# Altium footprint library AWR1843ABGABLQ1.PcbLib: 3 footprints
Each footprint in its own frame and in the unit in brackets; x right, y up, seen from the top. Pads: shape width x height; smd on the part's side, far side on the other; paste and mask are expansions set on the pad; w line width, h text height; cw(c..) or ccw(c..) is an arc to the next point about the centre after c.
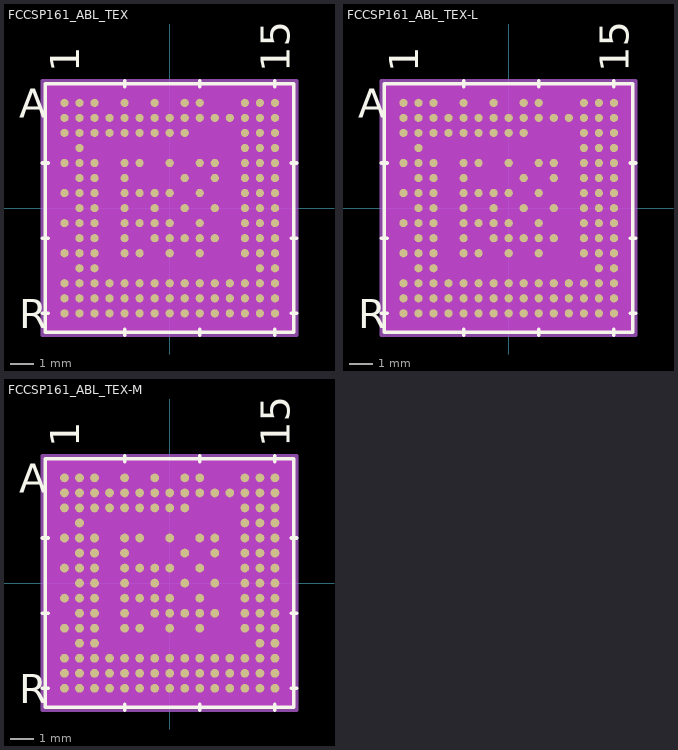
[diagram p0: the footprints below, top view; thin cyan lines are the x and y axes]

## FCCSP161_ABL_TEX [mil]
pads (161):
  round 14 smd paste+0 mask+0: A1(-179.13,179.13) A2(-153.54,179.13) A3(-127.95,179.13) A5(-76.77,179.13) A7(-25.59,179.13) A9(25.59,179.13) A10(51.18,179.13) A13(127.95,179.13) A14(153.54,179.13) A15(179.13,179.13) B1(-179.13,153.54) B2(-153.54,153.54) B3(-127.95,153.54) B4(-102.36,153.54) B5(-76.77,153.54) B6(-51.18,153.54) B7(-25.59,153.54) B8(0,153.54) B9(25.59,153.54) B10(51.18,153.54) B11(76.77,153.54) B12(102.36,153.54) B13(127.95,153.54) B14(153.54,153.54) B15(179.13,153.54) C1(-179.13,127.95) C2(-153.54,127.95) C3(-127.95,127.95) C4(-102.36,127.95) C5(-76.77,127.95) C6(-51.18,127.95) C7(-25.59,127.95) C8(0,127.95) C9(25.59,127.95) C13(127.95,127.95) C14(153.54,127.95) C15(179.13,127.95) D2(-153.54,102.36) D13(127.95,102.36) D14(153.54,102.36) D15(179.13,102.36) E1(-179.13,76.77) E2(-153.54,76.77) E3(-127.95,76.77) E5(-76.77,76.77) E6(-51.18,76.77) E8(0,76.77) E10(51.18,76.77) E11(76.77,76.77) E13(127.95,76.77) E14(153.54,76.77) E15(179.13,76.77) F2(-153.54,51.18) F3(-127.95,51.18) F5(-76.77,51.18) F9(25.59,51.18) F11(76.77,51.18) F13(127.95,51.18) F14(153.54,51.18) F15(179.13,51.18) G1(-179.13,25.59) G2(-153.54,25.59) G3(-127.95,25.59) G5(-76.77,25.59) G6(-51.18,25.59) G7(-25.59,25.59) G8(0,25.59) G10(51.18,25.59) G13(127.95,25.59) G14(153.54,25.59) G15(179.13,25.59) H2(-153.54,0) H3(-127.95,0) H5(-76.77,0) H7(-25.59,0) H9(25.59,0) H11(76.77,0) H13(127.95,0) H14(153.54,0) H15(179.13,0) J1(-179.13,-25.59) J2(-153.54,-25.59) J3(-127.95,-25.59) J5(-76.77,-25.59) J6(-51.18,-25.59) J7(-25.59,-25.59) J8(0,-25.59) J10(51.18,-25.59) J13(127.95,-25.59) J14(153.54,-25.59) J15(179.13,-25.59) K2(-153.54,-51.18) K3(-127.95,-51.18) K5(-76.77,-51.18) K7(-25.59,-51.18) K8(0,-51.18) K9(25.59,-51.18) K10(51.18,-51.18) K11(76.77,-51.18) K13(127.95,-51.18) K14(153.54,-51.18) K15(179.13,-51.18) L1(-179.13,-76.77) L2(-153.54,-76.77) L3(-127.95,-76.77) L5(-76.77,-76.77) L6(-51.18,-76.77) L8(0,-76.77) L10(51.18,-76.77) L13(127.95,-76.77) L14(153.54,-76.77) L15(179.13,-76.77) M2(-153.54,-102.36) M3(-127.95,-102.36) M14(153.54,-102.36) M15(179.13,-102.36) N1(-179.13,-127.95) N2(-153.54,-127.95) N3(-127.95,-127.95) N4(-102.36,-127.95) N5(-76.77,-127.95) N6(-51.18,-127.95) N7(-25.59,-127.95) N8(0,-127.95) N9(25.59,-127.95) N10(51.18,-127.95) N11(76.77,-127.95) N12(102.36,-127.95) N13(127.95,-127.95) N14(153.54,-127.95) N15(179.13,-127.95) P1(-179.13,-153.54) P2(-153.54,-153.54) P3(-127.95,-153.54) P4(-102.36,-153.54) P5(-76.77,-153.54) P6(-51.18,-153.54) P7(-25.59,-153.54) P8(0,-153.54) P9(25.59,-153.54) P10(51.18,-153.54) P11(76.77,-153.54) P12(102.36,-153.54) P13(127.95,-153.54) P14(153.54,-153.54) P15(179.13,-153.54) R1(-179.13,-179.13) R2(-153.54,-179.13) R3(-127.95,-179.13) R4(-102.36,-179.13) R5(-76.77,-179.13) R6(-51.18,-179.13) R7(-25.59,-179.13) R8(0,-179.13) R9(25.59,-179.13) R10(51.18,-179.13) R11(76.77,-179.13) R12(102.36,-179.13) R13(127.95,-179.13) R14(153.54,-179.13) R15(179.13,-179.13)
Top Overlay:
  lines w6: -216.5,-179.13 -206.5,-179.13 ; -216.5,-51.18 -206.5,-51.18 ; -216.5,76.77 -206.5,76.77 ; -76.77,-216.5 -76.77,-206.5 ; -76.77,206.5 -76.77,216.5 ; 51.18,-216.5 51.18,-206.5 ; 51.18,206.5 51.18,216.5 ; 179.13,-216.5 179.13,-206.5 ; 179.13,206.5 179.13,216.5 ; 206.5,-179.13 216.5,-179.13 ; 206.5,-51.18 216.5,-51.18 ; 206.5,76.77 216.5,76.77 ; -211.5,-211.5 211.5,-211.5 211.5,211.5 -211.5,211.5 -211.5,-211.5
  text "A" at -256.5,154.13 h50
  text "R" at -256.5,-204.13 h50
  text "1" at -154.13,231.5 h50
  text "15" at 204.13,231.5 h50
  text ".Designator" at -137.5,-25 h50
Bottom Overlay:
  text "A" at -231.5,154.13 h50
  text "R" at -231.5,-204.13 h50
  text "1" at -204.13,231.5 h50
  text "15" at 154.13,231.5 h50
Keep-Out Layer:
  region: -209.43,-209.43 -209.43,209.43 209.43,209.43 209.43,-209.43
Mechanical 13:
  lines w1: -206.5,193.7 -193.7,206.5 ; -206.5,-206.5 206.5,-206.5 206.5,206.5 -206.5,206.5 -206.5,-206.5
  text ".Designator" at -137.5,-25 h50
  text "A" at -256.5,154.13 h50
  text "R" at -256.5,-204.13 h50
  text "1" at -154.13,231.5 h50
  text "15" at 204.13,231.5 h50
Mechanical 15:
  region: 216.5,-216.5 -216.5,-216.5 -216.5,216.5 216.5,216.5
  lines w6: -216.5,-216.5 -216.5,216.5 216.5,216.5 216.5,-216.5 -216.5,-216.5
3D body "FCCSP161_ABL_TEX.step": height 46.1, standoff 0.02, extent -206.5,-206.5 206.5,206.5

## FCCSP161_ABL_TEX-L [mil]
pads (161):
  round 14 smd paste+0 mask+0: A1(-179.13,179.13) A2(-153.54,179.13) A3(-127.95,179.13) A5(-76.77,179.13) A7(-25.59,179.13) A9(25.59,179.13) A10(51.18,179.13) A13(127.95,179.13) A14(153.54,179.13) A15(179.13,179.13) B1(-179.13,153.54) B2(-153.54,153.54) B3(-127.95,153.54) B4(-102.36,153.54) B5(-76.77,153.54) B6(-51.18,153.54) B7(-25.59,153.54) B8(0,153.54) B9(25.59,153.54) B10(51.18,153.54) B11(76.77,153.54) B12(102.36,153.54) B13(127.95,153.54) B14(153.54,153.54) B15(179.13,153.54) C1(-179.13,127.95) C2(-153.54,127.95) C3(-127.95,127.95) C4(-102.36,127.95) C5(-76.77,127.95) C6(-51.18,127.95) C7(-25.59,127.95) C8(0,127.95) C9(25.59,127.95) C13(127.95,127.95) C14(153.54,127.95) C15(179.13,127.95) D2(-153.54,102.36) D13(127.95,102.36) D14(153.54,102.36) D15(179.13,102.36) E1(-179.13,76.77) E2(-153.54,76.77) E3(-127.95,76.77) E5(-76.77,76.77) E6(-51.18,76.77) E8(0,76.77) E10(51.18,76.77) E11(76.77,76.77) E13(127.95,76.77) E14(153.54,76.77) E15(179.13,76.77) F2(-153.54,51.18) F3(-127.95,51.18) F5(-76.77,51.18) F9(25.59,51.18) F11(76.77,51.18) F13(127.95,51.18) F14(153.54,51.18) F15(179.13,51.18) G1(-179.13,25.59) G2(-153.54,25.59) G3(-127.95,25.59) G5(-76.77,25.59) G6(-51.18,25.59) G7(-25.59,25.59) G8(0,25.59) G10(51.18,25.59) G13(127.95,25.59) G14(153.54,25.59) G15(179.13,25.59) H2(-153.54,0) H3(-127.95,0) H5(-76.77,0) H7(-25.59,0) H9(25.59,0) H11(76.77,0) H13(127.95,0) H14(153.54,0) H15(179.13,0) J1(-179.13,-25.59) J2(-153.54,-25.59) J3(-127.95,-25.59) J5(-76.77,-25.59) J6(-51.18,-25.59) J7(-25.59,-25.59) J8(0,-25.59) J10(51.18,-25.59) J13(127.95,-25.59) J14(153.54,-25.59) J15(179.13,-25.59) K2(-153.54,-51.18) K3(-127.95,-51.18) K5(-76.77,-51.18) K7(-25.59,-51.18) K8(0,-51.18) K9(25.59,-51.18) K10(51.18,-51.18) K11(76.77,-51.18) K13(127.95,-51.18) K14(153.54,-51.18) K15(179.13,-51.18) L1(-179.13,-76.77) L2(-153.54,-76.77) L3(-127.95,-76.77) L5(-76.77,-76.77) L6(-51.18,-76.77) L8(0,-76.77) L10(51.18,-76.77) L13(127.95,-76.77) L14(153.54,-76.77) L15(179.13,-76.77) M2(-153.54,-102.36) M3(-127.95,-102.36) M14(153.54,-102.36) M15(179.13,-102.36) N1(-179.13,-127.95) N2(-153.54,-127.95) N3(-127.95,-127.95) N4(-102.36,-127.95) N5(-76.77,-127.95) N6(-51.18,-127.95) N7(-25.59,-127.95) N8(0,-127.95) N9(25.59,-127.95) N10(51.18,-127.95) N11(76.77,-127.95) N12(102.36,-127.95) N13(127.95,-127.95) N14(153.54,-127.95) N15(179.13,-127.95) P1(-179.13,-153.54) P2(-153.54,-153.54) P3(-127.95,-153.54) P4(-102.36,-153.54) P5(-76.77,-153.54) P6(-51.18,-153.54) P7(-25.59,-153.54) P8(0,-153.54) P9(25.59,-153.54) P10(51.18,-153.54) P11(76.77,-153.54) P12(102.36,-153.54) P13(127.95,-153.54) P14(153.54,-153.54) P15(179.13,-153.54) R1(-179.13,-179.13) R2(-153.54,-179.13) R3(-127.95,-179.13) R4(-102.36,-179.13) R5(-76.77,-179.13) R6(-51.18,-179.13) R7(-25.59,-179.13) R8(0,-179.13) R9(25.59,-179.13) R10(51.18,-179.13) R11(76.77,-179.13) R12(102.36,-179.13) R13(127.95,-179.13) R14(153.54,-179.13) R15(179.13,-179.13)
Top Overlay:
  lines w6: -216.5,-179.13 -206.5,-179.13 ; -216.5,-51.18 -206.5,-51.18 ; -216.5,76.77 -206.5,76.77 ; -76.77,-216.5 -76.77,-206.5 ; -76.77,206.5 -76.77,216.5 ; 51.18,-216.5 51.18,-206.5 ; 51.18,206.5 51.18,216.5 ; 179.13,-216.5 179.13,-206.5 ; 179.13,206.5 179.13,216.5 ; 206.5,-179.13 216.5,-179.13 ; 206.5,-51.18 216.5,-51.18 ; 206.5,76.77 216.5,76.77 ; -211.5,-211.5 211.5,-211.5 211.5,211.5 -211.5,211.5 -211.5,-211.5
  text "A" at -256.5,154.13 h50
  text "R" at -256.5,-204.13 h50
  text "1" at -154.13,231.5 h50
  text "15" at 204.13,231.5 h50
  text ".Designator" at -137.5,-25 h50
Bottom Overlay:
  text "A" at -231.5,154.13 h50
  text "R" at -231.5,-204.13 h50
  text "1" at -204.13,231.5 h50
  text "15" at 154.13,231.5 h50
Keep-Out Layer:
  region: -209.43,-209.43 -209.43,209.43 209.43,209.43 209.43,-209.43
Mechanical 13:
  lines w1: -206.5,193.7 -193.7,206.5 ; -206.5,-206.5 206.5,-206.5 206.5,206.5 -206.5,206.5 -206.5,-206.5
  text ".Designator" at -137.5,-25 h50
  text "A" at -256.5,154.13 h50
  text "R" at -256.5,-204.13 h50
  text "1" at -154.13,231.5 h50
  text "15" at 204.13,231.5 h50
Mechanical 15:
  region: 216.5,-216.5 -216.5,-216.5 -216.5,216.5 216.5,216.5
  lines w6: -216.5,-216.5 -216.5,216.5 216.5,216.5 216.5,-216.5 -216.5,-216.5
3D body "FCCSP161_ABL_TEX.step": height 46.1, standoff 0.02, extent -206.5,-206.5 206.5,206.5

## FCCSP161_ABL_TEX-M [mil]
pads (161):
  round 15 smd paste+0 mask+0: A1(-179.13,179.13) A2(-153.54,179.13) A3(-127.95,179.13) A5(-76.77,179.13) A7(-25.59,179.13) A9(25.59,179.13) A10(51.18,179.13) A13(127.95,179.13) A14(153.54,179.13) A15(179.13,179.13) B1(-179.13,153.54) B2(-153.54,153.54) B3(-127.95,153.54) B4(-102.36,153.54) B5(-76.77,153.54) B6(-51.18,153.54) B7(-25.59,153.54) B8(0,153.54) B9(25.59,153.54) B10(51.18,153.54) B11(76.77,153.54) B12(102.36,153.54) B13(127.95,153.54) B14(153.54,153.54) B15(179.13,153.54) C1(-179.13,127.95) C2(-153.54,127.95) C3(-127.95,127.95) C4(-102.36,127.95) C5(-76.77,127.95) C6(-51.18,127.95) C7(-25.59,127.95) C8(0,127.95) C9(25.59,127.95) C13(127.95,127.95) C14(153.54,127.95) C15(179.13,127.95) D2(-153.54,102.36) D13(127.95,102.36) D14(153.54,102.36) D15(179.13,102.36) E1(-179.13,76.77) E2(-153.54,76.77) E3(-127.95,76.77) E5(-76.77,76.77) E6(-51.18,76.77) E8(0,76.77) E10(51.18,76.77) E11(76.77,76.77) E13(127.95,76.77) E14(153.54,76.77) E15(179.13,76.77) F2(-153.54,51.18) F3(-127.95,51.18) F5(-76.77,51.18) F9(25.59,51.18) F11(76.77,51.18) F13(127.95,51.18) F14(153.54,51.18) F15(179.13,51.18) G1(-179.13,25.59) G2(-153.54,25.59) G3(-127.95,25.59) G5(-76.77,25.59) G6(-51.18,25.59) G7(-25.59,25.59) G8(0,25.59) G10(51.18,25.59) G13(127.95,25.59) G14(153.54,25.59) G15(179.13,25.59) H2(-153.54,0) H3(-127.95,0) H5(-76.77,0) H7(-25.59,0) H9(25.59,0) H11(76.77,0) H13(127.95,0) H14(153.54,0) H15(179.13,0) J1(-179.13,-25.59) J2(-153.54,-25.59) J3(-127.95,-25.59) J5(-76.77,-25.59) J6(-51.18,-25.59) J7(-25.59,-25.59) J8(0,-25.59) J10(51.18,-25.59) J13(127.95,-25.59) J14(153.54,-25.59) J15(179.13,-25.59) K2(-153.54,-51.18) K3(-127.95,-51.18) K5(-76.77,-51.18) K7(-25.59,-51.18) K8(0,-51.18) K9(25.59,-51.18) K10(51.18,-51.18) K11(76.77,-51.18) K13(127.95,-51.18) K14(153.54,-51.18) K15(179.13,-51.18) L1(-179.13,-76.77) L2(-153.54,-76.77) L3(-127.95,-76.77) L5(-76.77,-76.77) L6(-51.18,-76.77) L8(0,-76.77) L10(51.18,-76.77) L13(127.95,-76.77) L14(153.54,-76.77) L15(179.13,-76.77) M2(-153.54,-102.36) M3(-127.95,-102.36) M14(153.54,-102.36) M15(179.13,-102.36) N1(-179.13,-127.95) N2(-153.54,-127.95) N3(-127.95,-127.95) N4(-102.36,-127.95) N5(-76.77,-127.95) N6(-51.18,-127.95) N7(-25.59,-127.95) N8(0,-127.95) N9(25.59,-127.95) N10(51.18,-127.95) N11(76.77,-127.95) N12(102.36,-127.95) N13(127.95,-127.95) N14(153.54,-127.95) N15(179.13,-127.95) P1(-179.13,-153.54) P2(-153.54,-153.54) P3(-127.95,-153.54) P4(-102.36,-153.54) P5(-76.77,-153.54) P6(-51.18,-153.54) P7(-25.59,-153.54) P8(0,-153.54) P9(25.59,-153.54) P10(51.18,-153.54) P11(76.77,-153.54) P12(102.36,-153.54) P13(127.95,-153.54) P14(153.54,-153.54) P15(179.13,-153.54) R1(-179.13,-179.13) R2(-153.54,-179.13) R3(-127.95,-179.13) R4(-102.36,-179.13) R5(-76.77,-179.13) R6(-51.18,-179.13) R7(-25.59,-179.13) R8(0,-179.13) R9(25.59,-179.13) R10(51.18,-179.13) R11(76.77,-179.13) R12(102.36,-179.13) R13(127.95,-179.13) R14(153.54,-179.13) R15(179.13,-179.13)
Top Overlay:
  lines w6: -216.5,-179.13 -206.5,-179.13 ; -216.5,-51.18 -206.5,-51.18 ; -216.5,76.77 -206.5,76.77 ; -76.77,-216.5 -76.77,-206.5 ; -76.77,206.5 -76.77,216.5 ; 51.18,-216.5 51.18,-206.5 ; 51.18,206.5 51.18,216.5 ; 179.13,-216.5 179.13,-206.5 ; 179.13,206.5 179.13,216.5 ; 206.5,-179.13 216.5,-179.13 ; 206.5,-51.18 216.5,-51.18 ; 206.5,76.77 216.5,76.77 ; -211.5,-211.5 211.5,-211.5 211.5,211.5 -211.5,211.5 -211.5,-211.5
  text "A" at -256.5,154.13 h50
  text "R" at -256.5,-204.13 h50
  text "1" at -154.13,231.5 h50
  text "15" at 204.13,231.5 h50
  text ".Designator" at -137.5,-25 h50
Bottom Overlay:
  text "A" at -231.5,154.13 h50
  text "R" at -231.5,-204.13 h50
  text "1" at -204.13,231.5 h50
  text "15" at 154.13,231.5 h50
Keep-Out Layer:
  region: -209.43,-209.43 -209.43,209.43 209.43,209.43 209.43,-209.43
Mechanical 13:
  lines w1: -206.5,193.7 -193.7,206.5 ; -206.5,-206.5 206.5,-206.5 206.5,206.5 -206.5,206.5 -206.5,-206.5
  text ".Designator" at -137.5,-25 h50
  text "A" at -256.5,154.13 h50
  text "R" at -256.5,-204.13 h50
  text "1" at -154.13,231.5 h50
  text "15" at 204.13,231.5 h50
Mechanical 15:
  region: 216.5,-216.5 -216.5,-216.5 -216.5,216.5 216.5,216.5
  lines w6: -216.5,-216.5 -216.5,216.5 216.5,216.5 216.5,-216.5 -216.5,-216.5
3D body "FCCSP161_ABL_TEX.step": height 46.1, standoff 0.02, extent -206.5,-206.5 206.5,206.5